# Altium footprint library thermostat.PcbLib: 112 footprints (part 6 of 7)
Each footprint in its own frame and in the unit in brackets; x right, y up, seen from the top. Pads: shape width x height; smd on the part's side, far side on the other; paste and mask are expansions set on the pad; w line width, h text height; cw(c..) or ccw(c..) is an arc to the next point about the centre after c.
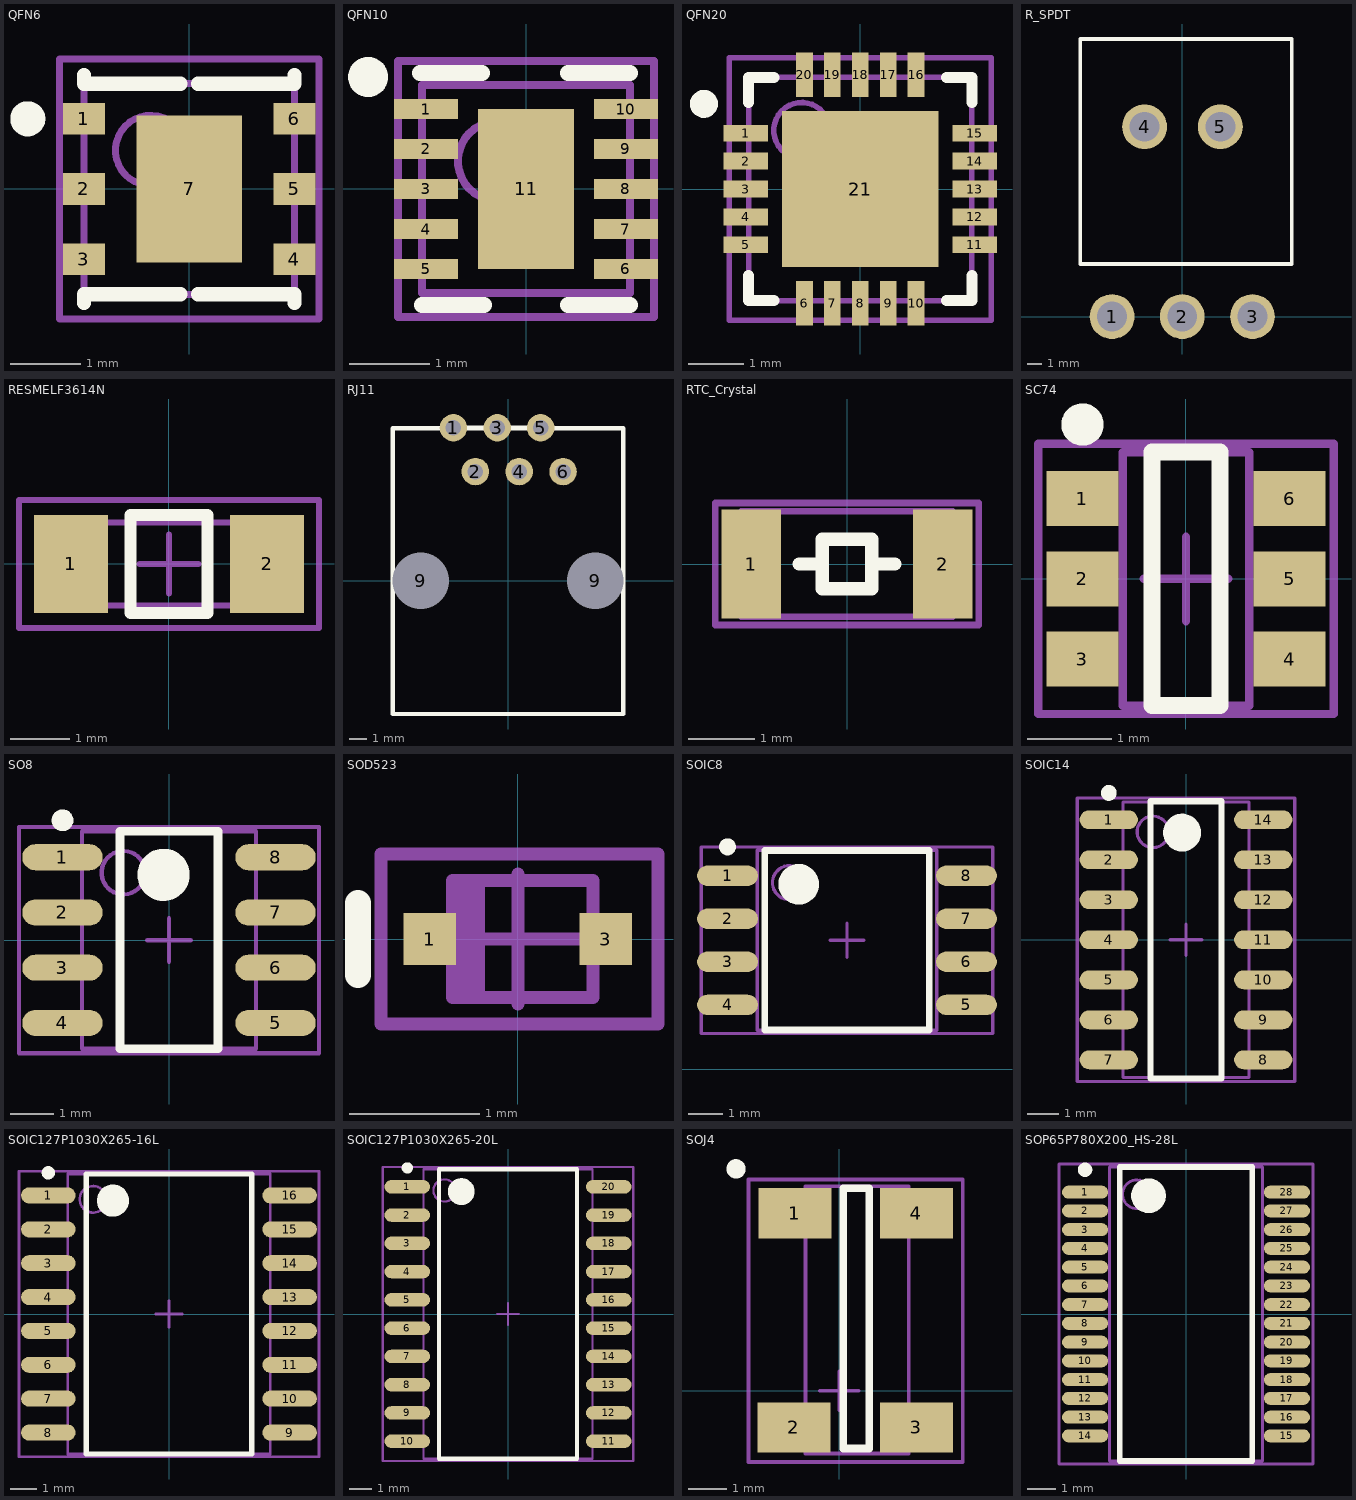
[diagram p5: the footprints below, top view; thin cyan lines are the x and y axes]

## QFN6 [mm] "QFN, 6-Leads, Body 3,0x3,0mm (max), Pitch 1,00mm, IPC High Density"
height 0.9
pads (7):
  rect 0.6x0.45 smd: 1(-1.5,1) 2(-1.5,0) 3(-1.5,-1) 4(1.5,-1) 5(1.5,0) 6(1.5,1)
  rect 1.5x2.1 smd: 7(0,0)
Top Overlay:
  circle w0.25: c-2.3,1 r0.125
  lines w0.2: -1.5,-1.625 -1.5,-1.5 -0.125,-1.5 ; -1.5,1.625 -1.5,1.5 -0.125,1.5 ; 0.125,-1.5 1.5,-1.5 1.5,-1.625 ; 0.125,1.5 1.5,1.5 1.5,1.625
Mechanical 13:
  circle w0.1: c-0.55,0.55 r0.5
  lines w0.1: -1.5,-1.5 1.5,-1.5 1.5,1.5 -1.5,1.5 -1.5,-1.5
Mechanical 15:
  lines w0.1: -0.5,0 0.5,0 ; 0,-0.5 0,0.5 ; -1.85,-1.85 1.85,-1.85 1.85,1.85 -1.85,1.85 -1.85,-1.85
3D body: height 0.9, standoff 0.1, extent -1.5,-1.5 1.5,1.5

## QFN10 [mm] "QFN, 10-Leads, Body 2,6x2,6mm (max), Pitch 0,50mm, IPC High Density"
height 0.7
pads (11):
  rect 0.8x0.25 smd: 1(-1.25,1) 2(-1.25,0.5) 3(-1.25,0) 4(-1.25,-0.5) 5(-1.25,-1) 6(1.25,-1) 7(1.25,-0.5) 8(1.25,0) 9(1.25,0.5) 10(1.25,1)
  rect 1.2x2 smd: 11(0,0)
Top Overlay:
  circle w0.25: c-1.975,1.4 r0.125
  lines w0.2: -1.325,1.45 -0.55,1.45 ; -1.3,-1.45 -0.525,-1.45 ; 0.525,-1.45 1.3,-1.45 ; 0.525,1.45 1.3,1.45
Mechanical 13:
  circle w0.1: c-0.35,0.35 r0.5
  lines w0.1: -1.3,-1.3 1.3,-1.3 1.3,1.3 -1.3,1.3 -1.3,-1.3
Mechanical 15:
  lines w0.1: -0.5,0 0.5,0 ; 0,-0.5 0,0.5 ; -1.6,-1.6 1.6,-1.6 1.6,1.6 -1.6,1.6 -1.6,-1.6
3D body: height 0.7, standoff 0.1, extent -1.3,-1.3 1.3,1.3

## QFN20 [mm] "QFN20, 20-Leads, Body 4,0x4,0mm (max), Pitch 0,50mm, IPC High Density"
height 0.8
pads (21):
  rect 0.8x0.3 smd: 1(-2.05,1) 2(-2.05,0.5) 3(-2.05,0) 4(-2.05,-0.5) 5(-2.05,-1) 11(2.05,-1) 12(2.05,-0.5) 13(2.05,0) 14(2.05,0.5) 15(2.05,1)
  rect 0.3x0.8 smd: 6(-1,-2.05) 7(-0.5,-2.05) 8(0,-2.05) 9(0.5,-2.05) 10(1,-2.05) 16(1,2.05) 17(0.5,2.05) 18(0,2.05) 19(-0.5,2.05) 20(-1,2.05)
  rect 2.8x2.8 smd: 21(0,0)
Top Overlay:
  circle w0.25: c-2.8,1.525 r0.125
  lines w0.2: -2,-1.55 -2,-2 -1.55,-2 ; -2,1.55 -2,2 -1.55,2 ; 1.55,-2 2,-2 2,-1.55 ; 1.55,2 2,2 2,1.55
Mechanical 13:
  circle w0.1: c-1.05,1.05 r0.5
  lines w0.1: -2,-2 2,-2 2,2 -2,2 -2,-2
Mechanical 15:
  lines w0.1: -0.5,0 0.5,0 ; 0,-0.5 0,0.5 ; -2.35,-2.35 2.35,-2.35 2.35,2.35 -2.35,2.35 -2.35,-2.35
3D body: height 0.8, standoff 0.1, extent -2,-2 2,2

## R_SPDT [mm] "SWITCH ROCKER SPDT 5A 120V"
height 9
pads (5):
  round 3 hole 2: 1(-4.7,0) 2(0,0) 3(4.7,0) 4(-2.525,12.7) 5(2.55,12.7)
Top Overlay:
  lines w0.254: -6.825,3.525 7.325,3.525 7.325,18.575 2.55,18.575 -6.825,18.575 -6.825,3.525
3D body: height 9.27, standoff 0, extent -6.875,3.55 7.275,26.275

## RESMELF3614N [mm] "MELF Resistor, 2-Leads, Body 3,6x1,4mm, IPC Medium Density"
height 1.4
pads (2):
  rect 1.25x1.65 smd: 1(-1.65,0) 2(1.65,0)
Top Overlay:
  lines w0.2: -0.65,-0.825 -0.65,0.825 0.65,0.825 0.65,-0.825 -0.65,-0.825
Mechanical 13:
  lines w0.1: -1.8,-0.7 1.8,-0.7 1.8,0.7 -1.8,0.7 -1.8,-0.7
Mechanical 15:
  lines w0.1: -0.5,0 0.5,0 ; 0,-0.5 0,0.5 ; -2.525,-1.075 2.525,-1.075 2.525,1.075 -2.525,1.075 -2.525,-1.075
3D body: height 1.4, standoff 0, extent -1.8,-0.7 1.8,0.7

## RJ11 [mm] "CONN MOD JACK R/A 6P6C"
height 12.7
pads (8):
  round 1.6 hole 0.9: 1(-3.175,8.9) 2(-1.9,6.35) 3(-0.625,8.9) 4(0.65,6.35) 5(1.9,8.9) 6(3.2,6.35)
  round 1.524 hole 3.3: 9(-5.075,0) 9(5.075,0)
Top Overlay:
  lines w0.254: -6.7,8.85 -6.7,0 -6.7,-7.75 5.075,-7.75 6.7,-7.75 6.7,0 6.7,8.875 ; -6.7,8.875 -5.075,8.875 6.675,8.875 ; -1.9,8.9 -3.175,8.9 -0.625,8.9 ; -0.65,8.9 1.9,8.9
3D body: height 12.7, standoff 0, extent -6.575,-7.625 6.575,8.75

## RTC_Crystal [mm] "RTC Crystal, 2-Leads, Body 3,2x1,6mm, IPC High Density"
height 0.9
pads (2):
  rect 0.9x1.65 smd: 1(-1.45,0) 2(1.45,0)
Top Overlay:
  lines w0.2: -0.725,0 -0.425,0 ; 0.4,0 0.725,0 ; -0.375,-0.375 0.375,-0.375 0.375,0.375 -0.375,0.375 -0.375,-0.375
Mechanical 13:
  lines w0.1: -1.6,-0.8 -1.6,0.8 1.6,0.8 1.6,-0.8 -1.6,-0.8
Mechanical 15:
  lines w0.1: -2,-0.925 -2,0.925 2,0.925 2,-0.925 -2,-0.925
3D body: height 0.9, standoff 0, extent -1.6,-0.8 1.6,0.8

## SC74 [mm]
height 1
pads (6):
  rect 0.85x0.65 smd: 1(-1.225,0.95) 2(-1.225,0) 3(-1.225,-0.95) 4(1.225,-0.95) 5(1.225,0) 6(1.225,0.95)
Top Overlay:
  circle w0.25: c-1.225,1.825 r0.125
  lines w0.2: -0.4,-1.5 0.4,-1.5 0.4,1.5 -0.4,1.5 -0.4,-1.5
Mechanical 13:
  lines w0.1: -0.75,-1.5 -0.75,1.5 0.75,1.5 0.75,-1.5 -0.75,-1.5
Mechanical 15:
  lines w0.1: -0.5,0 0.5,0 ; 0,-0.5 0,0.5 ; -1.75,-1.6 -1.75,1.6 1.75,1.6 1.75,-1.6 -1.75,-1.6
3D body: height 1, standoff 0.15, extent -0.75,-1.5 0.75,1.5

## SO8 [mm] "SOIC, 8-Leads, Body 5,0x4,0mm (max), Pitch 1,27mm, IPC High Density"
height 1.75
pads (8):
  oval 1.85x0.6 smd: 1(-2.45,1.905) 2(-2.45,0.635) 3(-2.45,-0.635) 4(-2.45,-1.905) 5(2.45,-1.905) 6(2.45,-0.635) 7(2.45,0.635) 8(2.45,1.905)
Top Overlay:
  circle w0.25: c-2.45,2.755 r0.125
  circle w0.6: c-0.125,1.5 r0.3
  lines w0.2: -1.125,-2.5 -1.125,2.5 1.125,2.5 1.125,-2.5 -1.125,-2.5
Mechanical 13:
  circle w0.1: c-1.05,1.55 r0.5
  lines w0.1: -2,-2.5 -2,2.5 2,2.5 2,-2.5 -2,-2.5
Mechanical 15:
  lines w0.1: -0.5,0 0.5,0 ; 0,-0.5 0,0.5 ; -3.45,-2.6 -3.45,2.6 3.45,2.6 3.45,-2.6 -3.45,-2.6
3D body: height 1.75, standoff 0.2, extent -2,-2.5 2,2.5

## SOD523 [mm] "Molded Diode, 2-Leads, Body 1,7x0,9mm, IPC High Density"
height 0.85
pads (2):
  rect 0.4x0.4 smd: 1(-0.675,0) 3(0.675,0)
Top Overlay:
  lines w0.2: -1.225,-0.275 -1.225,0.275
Mechanical 13:
  rectangle: -0.492,-0.5 -0.25,0.5
  lines w0.1: -0.5,-0.45 0.575,-0.45 0.575,0.45 -0.5,0.45 -0.5,-0.45
Mechanical 15:
  lines w0.1: -0.5,0 0.5,0 ; 0,-0.5 0,0.5 ; -1.05,-0.65 1.075,-0.65 1.075,0.65 -1.05,0.65 -1.05,-0.65
3D body: height 0.85, standoff 0, extent -0.525,-0.5 0.6,0.5

## SOIC8 [mm] "SOIC, 8-Leads, Body 5,3x5,3mm (max), Pitch 1,27mm, IPC High Density"
height 2.65
pads (8):
  oval 1.8x0.6 smd: 1(-10.575,5.715) 2(-10.575,4.445) 3(-10.575,3.175) 4(-10.575,1.905) 5(-3.525,1.905) 6(-3.525,3.175) 7(-3.525,4.445) 8(-3.525,5.715)
Top Overlay:
  circle w0.6: c-8.475,5.46 r0.3
  circle w0.25: c-10.575,6.565 r0.125
  lines w0.2: -9.475,1.16 -4.625,1.16 -4.625,6.46 -9.475,6.46 -9.475,1.16
Mechanical 13:
  circle w0.1: c-8.75,5.51 r0.5
  lines w0.1: -9.7,1.16 -4.4,1.16 -4.4,6.46 -9.7,6.46 -9.7,1.16
Mechanical 15:
  lines w0.1: -7.55,3.81 -6.55,3.81 ; -7.05,3.31 -7.05,4.31 ; -11.35,1.06 -2.75,1.06 -2.75,6.56 -11.35,6.56 -11.35,1.06
3D body: height 2.65, standoff 0.2, extent -9.7,1.16 -4.4,6.46

## SOIC14 [mm]
height 1.75
pads (14):
  oval 1.85x0.6 smd: 1(-2.45,3.81) 2(-2.45,2.54) 3(-2.45,1.27) 4(-2.45,0) 5(-2.45,-1.27) 6(-2.45,-2.54) 7(-2.45,-3.81) 8(2.45,-3.81) 9(2.45,-2.54) 10(2.45,-1.27) 11(2.45,0) 12(2.45,1.27) 13(2.45,2.54) 14(2.45,3.81)
Top Overlay:
  circle w0.25: c-2.45,4.66 r0.125
  circle w0.6: c-0.125,3.4 r0.3
  lines w0.2: -1.125,-4.4 -1.125,4.4 1.125,4.4 1.125,-4.4 -1.125,-4.4
Mechanical 13:
  circle w0.1: c-1.05,3.425 r0.5
  lines w0.1: -2,-4.375 -2,4.375 2,4.375 2,-4.375 -2,-4.375
Mechanical 15:
  lines w0.1: -0.5,0 0.5,0 ; 0,-0.5 0,0.5 ; -3.45,-4.5 -3.45,4.5 3.45,4.5 3.45,-4.5 -3.45,-4.5
3D body: height 1.75, standoff 0.2, extent -2,-4.375 2,4.375

## SOIC127P1030X265-16L [mm] "SOIC, 16-Leads, Body 10,5x7,6mm (max), Pitch 1,27mm, IPC High Density"
height 2.65
pads (16):
  oval 2.05x0.6 smd: 1(-4.525,4.445) 2(-4.525,3.175) 3(-4.525,1.905) 4(-4.525,0.635) 5(-4.525,-0.635) 6(-4.525,-1.905) 7(-4.525,-3.175) 8(-4.525,-4.445) 9(4.525,-4.445) 10(4.525,-3.175) 11(4.525,-1.905) 12(4.525,-0.635) 13(4.525,0.635) 14(4.525,1.905) 15(4.525,3.175) 16(4.525,4.445)
Top Overlay:
  circle w0.6: c-2.1,4.25 r0.3
  circle w0.25: c-4.525,5.295 r0.125
  lines w0.2: -3.1,-5.25 3.1,-5.25 3.1,5.25 -3.1,5.25 -3.1,-5.25
Mechanical 13:
  circle w0.1: c-2.85,4.3 r0.5
  lines w0.1: -3.8,-5.25 3.8,-5.25 3.8,5.25 -3.8,5.25 -3.8,-5.25
Mechanical 15:
  lines w0.1: -0.5,0 0.5,0 ; 0,-0.5 0,0.5 ; -5.625,-5.35 5.625,-5.35 5.625,5.35 -5.625,5.35 -5.625,-5.35
3D body: height 2.65, standoff 0.2, extent -3.8,-5.25 3.8,5.25

## SOIC127P1030X265-20L [mm] "SOIC, 20-Leads, Body 13,0x7,6mm (max), Pitch 1,27mm, IPC High Density"
height 2.65
pads (20):
  oval 2.05x0.6 smd: 1(-4.525,5.715) 2(-4.525,4.445) 3(-4.525,3.175) 4(-4.525,1.905) 5(-4.525,0.635) 6(-4.525,-0.635) 7(-4.525,-1.905) 8(-4.525,-3.175) 9(-4.525,-4.445) 10(-4.525,-5.715) 11(4.525,-5.715) 12(4.525,-4.445) 13(4.525,-3.175) 14(4.525,-1.905) 15(4.525,-0.635) 16(4.525,0.635) 17(4.525,1.905) 18(4.525,3.175) 19(4.525,4.445) 20(4.525,5.715)
Top Overlay:
  circle w0.6: c-2.1,5.5 r0.3
  circle w0.25: c-4.525,6.565 r0.125
  lines w0.2: -3.1,-6.5 3.1,-6.5 3.1,6.5 -3.1,6.5 -3.1,-6.5
Mechanical 13:
  circle w0.1: c-2.85,5.55 r0.5
  lines w0.1: -3.8,-6.5 3.8,-6.5 3.8,6.5 -3.8,6.5 -3.8,-6.5
Mechanical 15:
  lines w0.1: -0.5,0 0.5,0 ; 0,-0.5 0,0.5 ; -5.625,-6.6 5.625,-6.6 5.625,6.6 -5.625,6.6 -5.625,-6.6
3D body: height 2.65, standoff 0.2, extent -3.8,-6.5 3.8,6.5

## SOJ4 [mm] "CRYSTAL 32.768KHZ 12.5PF SMD"
height 2.5
pads (4):
  rect 1.9x1.3 smd: 1(-1.15,4.6) 2(-1.175,-0.95) 3(2,-0.95) 4(2,4.6)
Top Overlay:
  circle w0.25: c-2.675,5.75 r0.125
  lines w0.2: 0.1,-1.5 0.1,5.25 0.775,5.25 0.775,-1.5 0.1,-1.5
Mechanical 13:
  lines w0.1: -0.875,-1.625 1.8,-1.625 1.8,5.3 -0.875,5.3 -0.875,-1.625
Mechanical 15:
  lines w0.1: -0.5,0 0.5,0 ; 0,-0.5 0,0.5 ; -2.35,-1.85 3.2,-1.85 3.2,5.475 -2.35,5.475 -2.35,-1.85
3D body: height 2.9, standoff 0.15, extent -0.875,-1.6 1.8,5.3

## SOP65P780X200_HS-28L [mm] "SOP, 28-Leads, Body 10,2x5,3mm (max), Pitch 0,65mm, IPC High Density"
height 2
pads (28):
  oval 1.6x0.45 smd: 1(-3.5,4.225) 2(-3.5,3.575) 3(-3.5,2.925) 4(-3.5,2.275) 5(-3.5,1.625) 6(-3.5,0.975) 7(-3.5,0.325) 8(-3.5,-0.325) 9(-3.5,-0.975) 10(-3.5,-1.625) 11(-3.5,-2.275) 12(-3.5,-2.925) 13(-3.5,-3.575) 14(-3.5,-4.225) 15(3.5,-4.225) 16(3.5,-3.575) 17(3.5,-2.925) 18(3.5,-2.275) 19(3.5,-1.625) 20(3.5,-0.975) 21(3.5,-0.325) 22(3.5,0.325) 23(3.5,0.975) 24(3.5,1.625) 25(3.5,2.275) 26(3.5,2.925) 27(3.5,3.575) 28(3.5,4.225)
Top Overlay:
  circle w0.6: c-1.3,4.1 r0.3
  circle w0.25: c-3.5,5 r0.125
  lines w0.2: -2.3,-5.1 2.3,-5.1 2.3,5.1 -2.3,5.1 -2.3,-5.1
Mechanical 13:
  circle w0.1: c-1.7,4.15 r0.5
  lines w0.1: -2.65,-5.1 2.65,-5.1 2.65,5.1 -2.65,5.1 -2.65,-5.1
Mechanical 15:
  lines w0.1: -4.4,-5.2 4.4,-5.2 4.4,5.2 -4.4,5.2 -4.4,-5.2
3D body: height 2, standoff 0.2, extent -2.65,-5.1 2.65,5.1